# Altium footprint library EBoxpcblib.PcbLib: 32 footprints (part 1 of 2)
Each footprint in its own frame and in the unit in brackets; x right, y up, seen from the top. Pads: shape width x height; smd on the part's side, far side on the other; paste and mask are expansions set on the pad; w line width, h text height; cw(c..) or ccw(c..) is an arc to the next point about the centre after c.
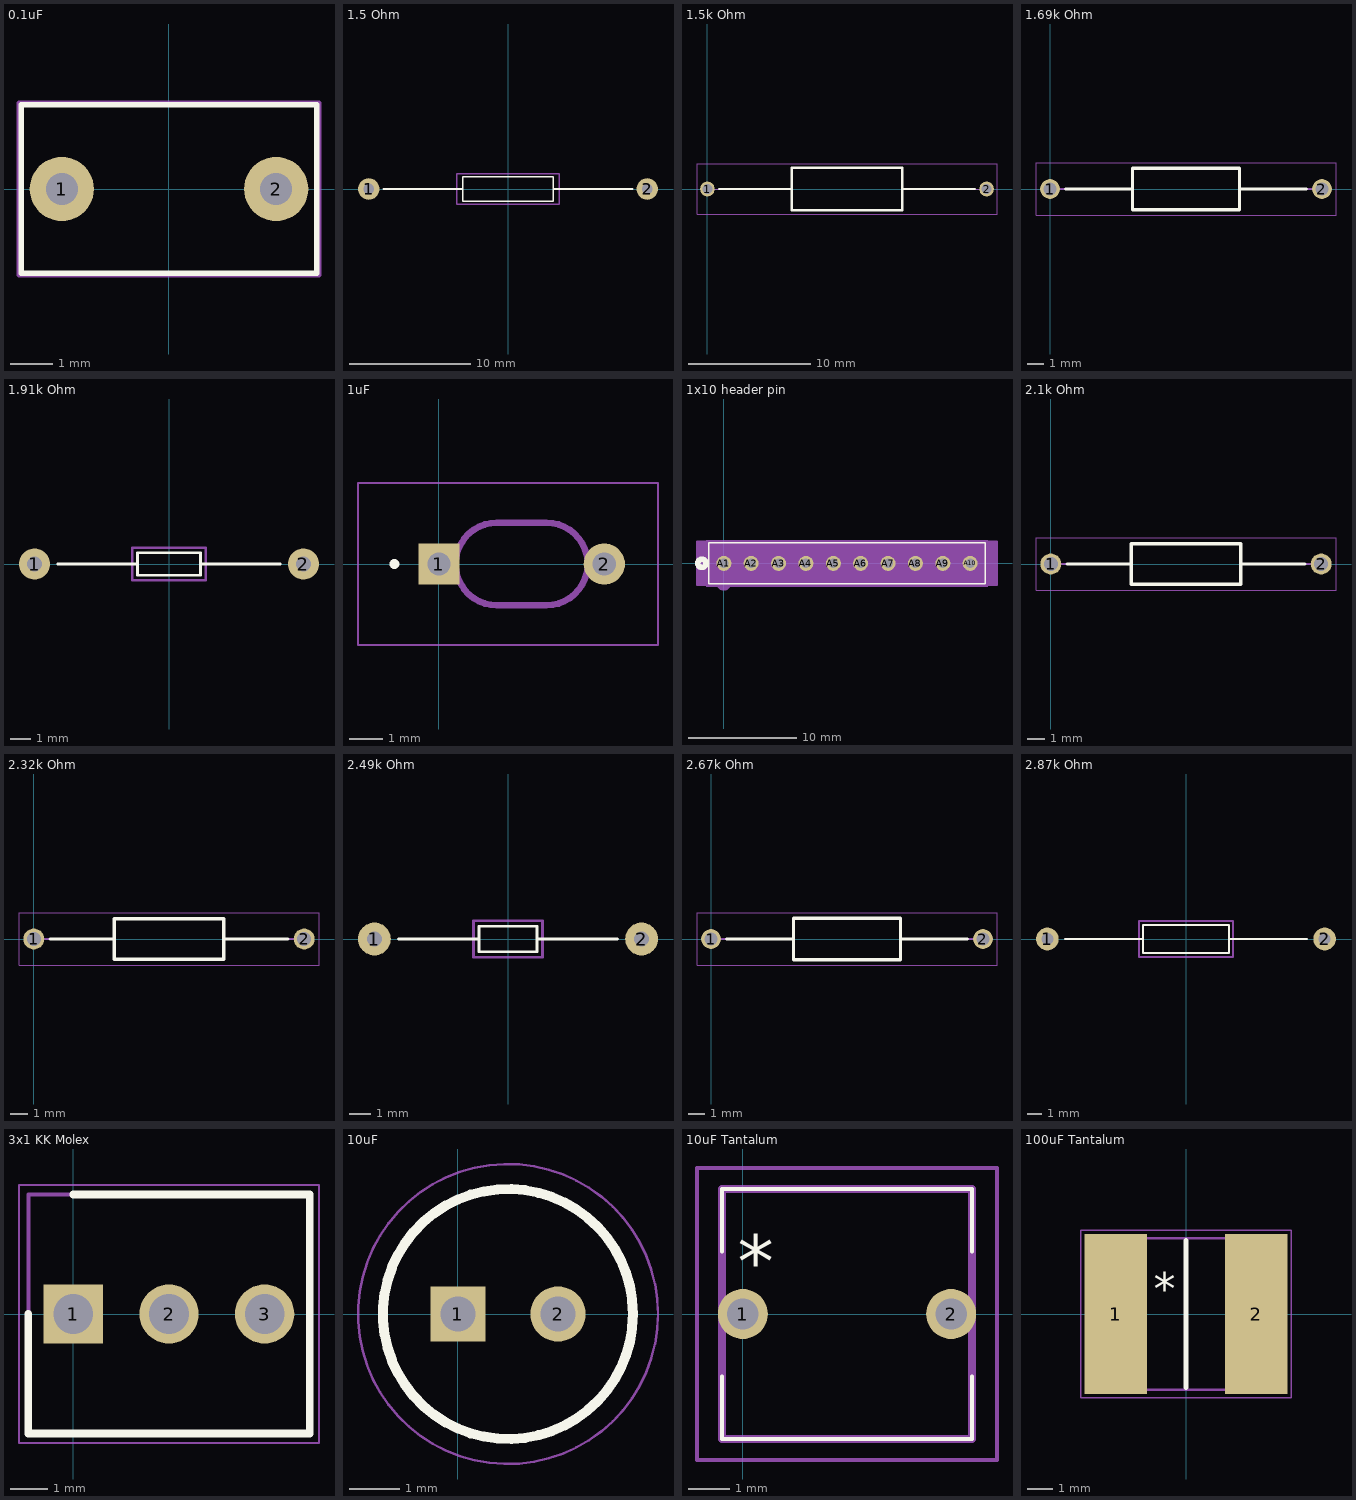
[diagram p0: the footprints below, top view; thin cyan lines are the x and y axes]

## 0.1uF [mil] "C322C104K5R5TA7305"
pads (2):
  round 60 hole 30: 1(-100,0) 2(100,0)
Top Overlay:
  lines w5: -137.8,-78.74 137.8,-78.74 137.8,78.74 -137.8,78.74 -137.8,-78.74
Mechanical 7:
  lines w5: -139.96,-80.12 139.96,-80.12 139.96,80.12 -139.96,80.12 -139.96,-80.12

## 1.5 Ohm [mil] "PR01000101508JR500"
pads (2):
  round 70 hole 35: 1(-452.76,0) 2(452.76,0)
Top Overlay:
  lines w5: -405,0 -147.64,0 ; 147.64,0 405,0 ; -147.64,-39.37 -147.64,39.37 147.64,39.37 147.64,-39.37 -147.64,-39.37
Mechanical 7:
  lines w5: -167.32,-49.21 -167.32,49.21 167.32,49.21 167.32,-49.21 -167.32,-49.21

## 1.5k Ohm [mm] "RESAD2280W60L900D345"
pads (2):
  round 1.2 hole 0.8: 1(0,0) 2(22.8,0)
Top Overlay:
  lines w0.2: 0.95,0 6.9,0 ; 15.9,0 21.85,0 ; 6.9,-1.725 15.9,-1.725 15.9,1.725 6.9,1.725 6.9,-1.725
Mechanical 13:
  lines w0.1: 0,0 6.9,0 ; 15.9,0 22.8,0 ; 6.9,-1.725 15.9,-1.725 15.9,1.725 6.9,1.725 6.9,-1.725
Mechanical 15:
  lines w0.05: -0.85,-2.075 23.65,-2.075 23.65,2.075 -0.85,2.075 -0.85,-2.075
3D body "MF1_2DCT52R1501F.stp": height 3.9, standoff -3.9, extent -0.298,-1.947 23.1,1.947

## 1.69k Ohm [mm] "RESAD1650W60L650D250"
pads (2):
  round 1.2 hole 0.8: 1(0,0) 2(16.5,0)
Top Overlay:
  lines w0.2: 0.95,0 5,0 ; 11.5,0 15.55,0 ; 5,-1.25 5,1.25 11.5,1.25 11.5,-1.25 5,-1.25
Mechanical 13:
  lines w0.1: 0,0 5,0 ; 11.5,0 16.5,0 ; 5,-1.25 5,1.25 11.5,1.25 11.5,-1.25 5,-1.25
Mechanical 15:
  lines w0.05: -0.85,-1.6 -0.85,1.6 17.35,1.6 17.35,-1.6 -0.85,-1.6
3D body "MRS25000C1691FRP00.stp": height 2.49, standoff -2.5, extent -0.298,-1.248 16.8,1.248

## 1.91k Ohm [mil] "MBA02040C1911FRP00"
pads (2):
  round 60 hole 29.68: 1(-259.84,0) 2(259.84,0)
Top Overlay:
  lines w5: -215,0 -60.87,0 ; 60.87,0 215,0 ; -60.87,-21.5 60.87,-21.5 60.87,21.5 -60.87,21.5 -60.87,-21.5
Mechanical 7:
  lines w5: -70.87,-31.5 70.87,-31.5 70.87,31.5 -70.87,31.5 -70.87,-31.5

## 1uF [mm] "FG28"
pads (2):
  rect 1.25x1.25 hole 0.7: 1(0,0)
  round 1.25 hole 0.7: 2(5,0)
Top Overlay:
  circle w0.2: c-1.35,0 r0.05
Mechanical 13:
  lines w0.2: 1.75,-1.25 cw(c1.75,0) 1.75,1.25 3.25,1.25 cw(c3.25,0) 3.25,-1.25 1.75,-1.25
Mechanical 15:
  lines w0.05: -2.45,-2.45 -2.45,2.45 6.625,2.45 6.625,-2.45 -2.45,-2.45
3D body "FG28X5R1H105KRT06.stp": height 5.6, standoff -5, extent -0.248,-1.25 5.25,1.25

## 1x10 header pin [mil] "5-535541-8_TYC"
pads (10):
  round 55 hole 35 mask+0: A1(0,0) A2(100,0) A3(200,0) A4(300,0) A5(400,0) A6(500,0) A7(600,0) A8(700,0) A9(800,0) A10(900,0)
Top Overlay:
  circle w20: c-80,0 r15
  lines w6: -55,-75 -55,75 955,75 955,-75 -55,-75
Bottom Overlay:
  circle w20: c-80,0 r15
Mechanical 5:
  region: -65,85 965,85 965,-85 -65,-85
Mechanical 13:
  circle w20: c0,-75 r15
  lines w1: -50,-70 -50,70 950,70 950,-70 -50,-70
Mechanical 15:
  region: 950,70 -50,70 -50,-70 950,-70
  region: 998,80 -98,80 -98,-80 998,-80
  lines w6: -98,-80 998,-80 998,80 -98,80 -98,-80
3D body: height 10, standoff 0, extent 0,0 10,10

## 2.1k Ohm [mm] "RESAD1550W60L630D230"
pads (2):
  round 1.2 hole 0.8: 1(0,0) 2(15.5,0)
Top Overlay:
  lines w0.2: 0.95,0 4.6,0 ; 10.9,0 14.55,0 ; 4.6,-1.15 10.9,-1.15 10.9,1.15 4.6,1.15 4.6,-1.15
Mechanical 13:
  lines w0.1: 0,0 4.6,0 ; 10.9,0 15.5,0 ; 4.6,-1.15 10.9,-1.15 10.9,1.15 4.6,1.15 4.6,-1.15
Mechanical 15:
  lines w0.05: -0.85,-1.5 16.35,-1.5 16.35,1.5 -0.85,1.5 -0.85,-1.5
3D body "YR1B2K1CC.stp": height 2.49, standoff -2.5, extent -0.298,-1.248 15.8,1.248

## 2.32k Ohm [mm] "RESAD1550W60L630D230"
pads (2):
  round 1.2 hole 0.8: 1(0,0) 2(15.5,0)
Top Overlay:
  lines w0.2: 0.95,0 4.6,0 ; 10.9,0 14.55,0 ; 4.6,-1.15 10.9,-1.15 10.9,1.15 4.6,1.15 4.6,-1.15
Mechanical 13:
  lines w0.1: 0,0 4.6,0 ; 10.9,0 15.5,0 ; 4.6,-1.15 10.9,-1.15 10.9,1.15 4.6,1.15 4.6,-1.15
Mechanical 15:
  lines w0.05: -0.85,-1.5 16.35,-1.5 16.35,1.5 -0.85,1.5 -0.85,-1.5
3D body "YR1B2K32CC.stp": height 2.49, standoff -2.5, extent -0.298,-1.248 15.8,1.248

## 2.49k Ohm [mil] "MFS1/4DCT52R2491F"
pads (2):
  round 60 hole 28: 1(-244.09,0) 2(244.09,0)
Top Overlay:
  lines w5: -200,0 -52.99,0 ; 52.99,0 200,0 ; -52.99,-23.46 52.99,-23.46 52.99,23.46 -52.99,23.46 -52.99,-23.46
Mechanical 7:
  lines w5: -62.99,-33.46 62.99,-33.46 62.99,33.46 -62.99,33.46 -62.99,-33.46

## 2.67k Ohm [mm] "RESAD1650W60L650D250"
pads (2):
  round 1.2 hole 0.8: 1(0,0) 2(16.5,0)
Top Overlay:
  lines w0.2: 0.95,0 5,0 ; 11.5,0 15.55,0 ; 5,-1.25 5,1.25 11.5,1.25 11.5,-1.25 5,-1.25
Mechanical 13:
  lines w0.1: 0,0 5,0 ; 11.5,0 16.5,0 ; 5,-1.25 5,1.25 11.5,1.25 11.5,-1.25 5,-1.25
Mechanical 15:
  lines w0.05: -0.85,-1.6 -0.85,1.6 17.35,1.6 17.35,-1.6 -0.85,-1.6
3D body "MRS25000C2671FRP00.stp": height 2.49, standoff -2.5, extent -0.298,-1.248 16.8,1.248

## 2.87k Ohm [mil] "MFR-25FBF52-2K87"
pads (2):
  round 60 hole 31.65: 1(-366.14,0) 2(366.14,0)
Top Overlay:
  lines w5: -320,0 -114.02,0 ; 114.02,0 320,0 ; -114.02,-37.24 114.02,-37.24 114.02,37.24 -114.02,37.24 -114.02,-37.24
Mechanical 7:
  lines w5: -124.02,-47.24 124.02,-47.24 124.02,47.24 -124.02,47.24 -124.02,-47.24

## 3x1 KK Molex [mm] "22112032 - HDRV3W87P0X254_1X3_747X635X1105P"
pads (3):
  rect 1.575x1.575 hole 1.05: 1(0,0)
  round 1.575 hole 1.05: 2(2.54,0) 3(5.08,0)
Top Overlay:
  lines w0.2: -1.195,0 -1.195,-3.175 6.275,-3.175 6.275,3.175 0,3.175
Mechanical 13:
  lines w0.1: -1.195,-3.175 6.275,-3.175 6.275,3.175 -1.195,3.175 -1.195,-3.175
Mechanical 15:
  lines w0.05: -1.445,-3.425 6.525,-3.425 6.525,3.425 -1.445,3.425 -1.445,-3.425
3D body "22-11-2032.stp": height 10.65, standoff -3.57, extent -1.194,-3.241 6.274,3.109

## 10uF [mm] "CAPPRD200W52D500H1250"
pads (2):
  rect 1.1x1.1 hole 0.7: 1(0,0)
  round 1.1 hole 0.7: 2(2,0)
Top Overlay:
  circle w0.2: c1,0 r2.5
Mechanical 13:
  circle w0.1: c1,0 r2.5
Mechanical 15:
  circle w0.05: c1,0 r3
3D body "860010672009.stp": height 12.5, standoff -10, extent -1.75,-2.75 3.75,2.75

## 10uF Tantalum [mm] "TAP106K035CRW"
pads (2):
  round 1.2 hole 0.75: 1(0,0) 2(5,0)
Top Overlay:
  lines w0.1: -0.5,-1.5 -0.5,-3 5.5,-3 5.5,-1.5 ; -0.5,1.5 -0.5,3 5.5,3 5.5,1.5
  text "*" at -0.127,0.635 h1.27
Mechanical 13:
  lines w0.2: -0.5,-3 5.5,-3 5.5,3 -0.5,3 -0.5,-3
Mechanical 15:
  lines w0.1: -1.1,-3.5 6.1,-3.5 6.1,3.5 -1.1,3.5 -1.1,-3.5
3D body "TAP106K035CRW.stp": height 11.6, standoff -5, extent -0.5,-3 5.5,3

## 100uF Tantalum [mm] "CAPC7360X200N"
pads (2):
  rect 2.47x6.32 smd: 1(-2.77,0) 2(2.77,0)
Top Overlay:
  lines w0.2: 0,-2.9 0,2.9
  text "*" at -1.27,0.381 h1.27
Mechanical 13:
  lines w0.1: -3.65,-3 -3.65,3 3.65,3 3.65,-3 -3.65,-3
Mechanical 15:
  lines w0.05: -4.155,-3.31 -4.155,3.31 4.155,3.31 4.155,-3.31 -4.155,-3.31
3D body "T52M1107M035C0055.stp": height 2, standoff 0, extent -3.65,-3 3.65,3